# EAGLE library part TL750L10 (library DashAndCAN library)
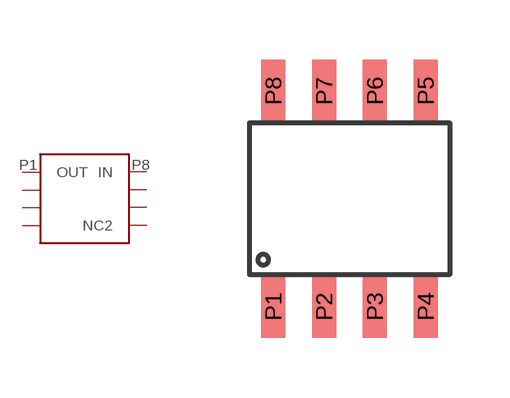
[diagram p0: symbol with the pads of 8-SOIC; footprint 8-SOIC]

Designator prefix -

## TL750L10  [8-SOIC]
P1  OUT
P2  COM
P3  COM2
P4  NC1
P5  NC2
P6  COM3
P7  COM4
P8  IN

## Footprint 8-SOIC (pad centres in mm)
smd 0.6 x 1.55: P1 -1.905,-2.7; P2 -0.635,-2.7; P3 0.635,-2.7; P4 1.905,-2.7; P5 1.905,2.7; P6 0.635,2.7; P7 -0.635,2.7; P8 -1.905,2.7